# Altium schematic symbol library LV28xx_family.SchLib: 1 symbol
Pins are listed as number, name and electrical type; pins without a type are passive.

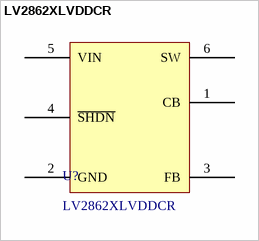
[diagram p0: symbol LV2862XLVDDCR]

## LV2862XLVDDCR
designator U?
60-V,600-mA High Efficiency Wide Input Voltage Range Buck Converter; Manufacturer: Texas Instruments; Current Output: 600 mA; Quiescent Current: 28 uA; Voltage Input Maximum: 60 V; Voltage Input Minimum: 4 V; Voltage Output Maximum: 58 V; Switching Frequency: 700 kHz; Voltage Output Minimum: 765 mV; ComponentLink1Description: Datasheet; ComponentLink1URL: https://www.lcsc.com/datasheet/C3200285.pdf?spm=wm.fly.bg.0.pdf&lcsc_vid=FQMKBABWTgUIBQJQFFEMBgBUFFIPVlNeFQReAQVWFFgxVlNeQlNdUlNVRFBbUDsOAxUeFF5JWBYZEEoKFBINSQcJGk4NBhADEA4cHktXR1NXSQwSGg0%3D; LCSC Part #: C3200285; Manufacturer Part Number: LV2862XLVDDCR; Mount: SMD/SMT; Operating Temperature Max: + 125 C; Operating Temperature Min: - 40 C; Package / Case: SOT-23-THIN-6; Packaging: Tape and Reel; Product: Switching Voltage Regulators; Supplier 1: Mouser; Supplier 1 Part Number: 595-LV2862XLVDDCR; Supplier 1 URL: https://www.mouser.vn/en/ProductDetail/Texas-Instruments/LV2862XLVDDCR?qs=XJu%252BLGjWfSCoT1RiKkHrOA%3D%3D; Supplier 2: Digi-Key; Supplier 2 Part Number: 296-LV2862XLVDDCRTR-ND; Supplier 2 URL: https://www.digikey.com/en/products/detail/texas-instruments/lv2862xlvddcr/15856939; Supplier 3: thegioiic; Supplier 3 Part Number: N/A; Supplier 3 URL: N/A; Value: LV2862XLVDDCR
footprint LV2862XLVDDCR (SOT23, 6-Leads, Body 2.90x2.80mm, Pitch 0.95mm, IPC Medium Density)
pins: 1 CB (power), 2 GND (power), 3 FB (power), 4 ~{SHDN} (power), 5 VIN (power), 6 SW (power)